# Altium schematic symbol library Aeroval.SchLib: 16 symbols
Pins are listed as number, name and electrical type; pins without a type are passive.

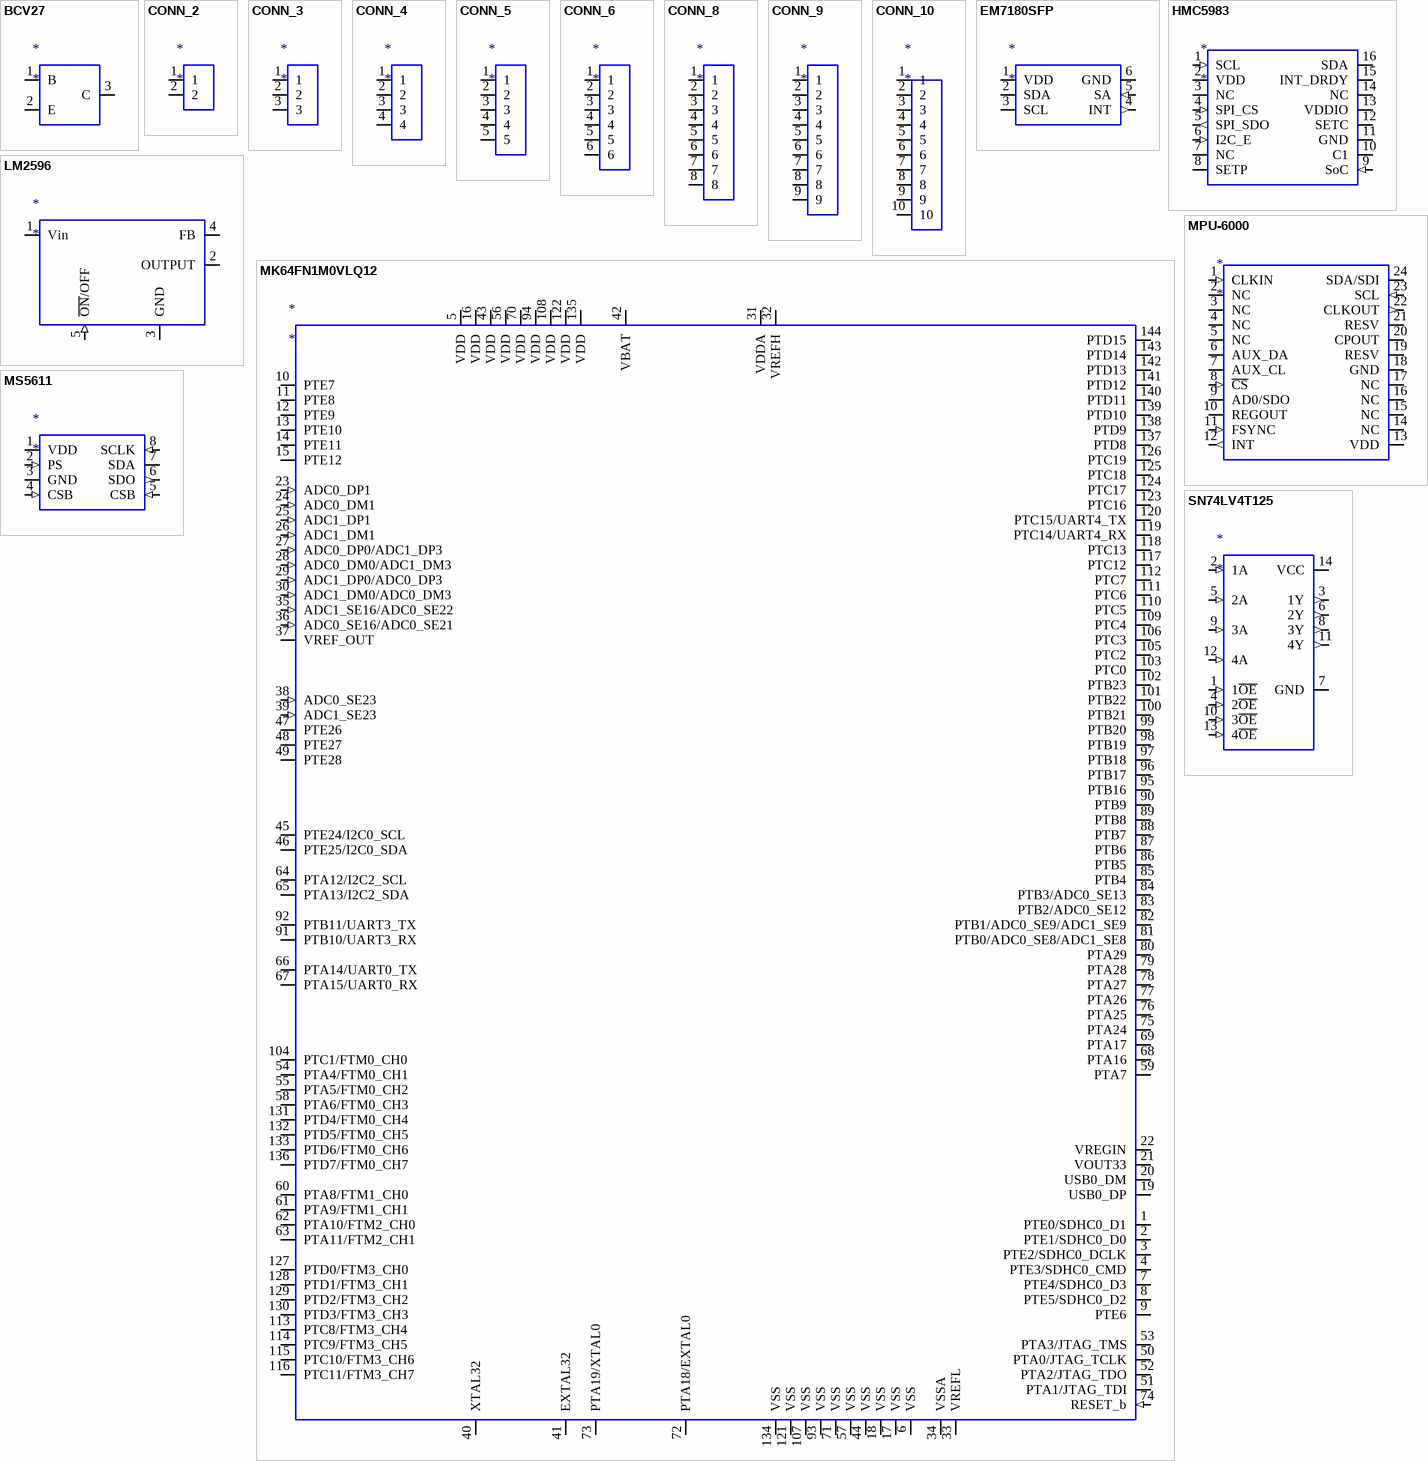
[diagram p0: symbols BCV27 to SN74LV4T125]

## BCV27
designator *
pins: 1 B (power), 2 E (power), 3 C (power)

## CONN_2
designator *
pins: 1 (io), 2 (io)

## CONN_3
designator *
pins: 1 (io), 2 (io), 3 (io)

## CONN_4
designator *
pins: 1 (io), 2 (io), 3 (io), 4 (io)

## CONN_5
designator *
pins: 1 (io), 2 (io), 3 (io), 4 (io), 5 (io)

## CONN_6
designator *
pins: 1 (io), 2 (io), 3 (io), 4 (io), 5 (io), 6 (io)

## CONN_8
designator *
pins: 1 (io), 2 (io), 3 (io), 4 (io), 5 (io), 6 (io), 7 (io), 8 (io)

## CONN_9
designator *
pins: 1 (io), 2 (io), 3 (io), 4 (io), 5 (io), 6 (io), 7 (io), 8 (io), 9 (io)

## CONN_10
designator *
pins: 1 (io), 2 (io), 3 (io), 4 (io), 5 (io), 6 (io), 7 (io), 8 (io), 9 (io), 10 (io)

## EM7180SFP
designator *
pins: 1 VDD (power), 2 SDA (io), 3 SCL (io), 4 INT (out), 5 SA (in), 6 GND (power)

## HMC5983
designator *
pins: 1 SCL (in), 2 VDD (power), 3 NC (power), 4 SPI_CS (in), 5 SPI_SDO (out), 6 I2C_E (in), 7 NC (power), 8 SETP (power), 9 SoC (in), 10 C1 (power), 11 GND (power), 12 SETC (power), 13 VDDIO (power), 14 NC (power), 15 INT_DRDY (power), 16 SDA (io)

## LM2596
designator *
pins: 1 Vin (power), 2 OUTPUT (power), 3 GND (power), 4 FB (power), 5 ~{ON}/OFF (in)

## MK64FN1M0VLQ12
designator *
pins: 1 PTE0/SDHC0_D1 (io), 2 PTE1/SDHC0_D0 (io), 3 PTE2/SDHC0_DCLK (io), 4 PTE3/SDHC0_CMD (io), 5 VDD (power), 6 VSS (power), 7 PTE4/SDHC0_D3 (io), 8 PTE5/SDHC0_D2 (io), 9 PTE6 (io), 10 PTE7 (io), 11 PTE8 (io), 12 PTE9 (io), 13 PTE10 (io), 14 PTE11 (io), 15 PTE12 (io), 16 VDD (power), 17 VSS (power), 18 VSS (power), 19 USB0_DP (io), 20 USB0_DM (io), 21 VOUT33 (power), 22 VREGIN (power), 23 ADC0_DP1 (in), 24 ADC0_DM1 (in), 25 ADC1_DP1 (in), 26 ADC1_DM1 (in), 27 ADC0_DP0/ADC1_DP3 (in), 28 ADC0_DM0/ADC1_DM3 (in), 29 ADC1_DP0/ADC0_DP3 (in), 30 ADC1_DM0/ADC0_DM3 (in), 31 VDDA (power), 32 VREFH (power), 33 VREFL (power), 34 VSSA (power), 35 ADC1_SE16/ADC0_SE22 (in), 36 ADC0_SE16/ADC0_SE21 (in), 37 VREF_OUT (power), 38 ADC0_SE23 (in), 39 ADC1_SE23 (in), 40 XTAL32 (io), 41 EXTAL32 (io), 42 VBAT (power), 43 VDD (power), 44 VSS (power), 45 PTE24/I2C0_SCL (io), 46 PTE25/I2C0_SDA (io), 47 PTE26 (io), 48 PTE27 (io), 49 PTE28 (io), 50 PTA0/JTAG_TCLK (io), 51 PTA1/JTAG_TDI (io), 52 PTA2/JTAG_TDO (io), 53 PTA3/JTAG_TMS (io), 54 PTA4/FTM0_CH1 (io), 55 PTA5/FTM0_CH2 (io), 56 VDD (power), 57 VSS (power), 58 PTA6/FTM0_CH3 (io), 59 PTA7 (io), 60 PTA8/FTM1_CH0 (io), 61 PTA9/FTM1_CH1 (io), 62 PTA10/FTM2_CH0 (io), 63 PTA11/FTM2_CH1 (io), 64 PTA12/I2C2_SCL (io), 65 PTA13/I2C2_SDA (io), 66 PTA14/UART0_TX (io), 67 PTA15/UART0_RX (io), 68 PTA16 (io), 69 PTA17 (io), 70 VDD (power), 71 VSS (power), 72 PTA18/EXTAL0 (io), 73 PTA19/XTAL0 (io), 74 RESET_b (in), 75 PTA24 (io), 76 PTA25 (io), 77 PTA26 (io), 78 PTA27 (io), 79 PTA28 (io), 80 PTA29 (io), 81 PTB0/ADC0_SE8/ADC1_SE8 (io), 82 PTB1/ADC0_SE9/ADC1_SE9 (io), 83 PTB2/ADC0_SE12 (io), 84 PTB3/ADC0_SE13 (io), 85 PTB4 (io), 86 PTB5 (io), 87 PTB6 (io), 88 PTB7 (io), 89 PTB8 (io), 90 PTB9 (io), 91 PTB10/UART3_RX (io), 92 PTB11/UART3_TX (io), 93 VSS (power), 94 VDD (power), 95 PTB16 (io), 96 PTB17 (io), 97 PTB18 (io), 98 PTB19 (io), 99 PTB20 (io), 100 PTB21 (io), 101 PTB22 (io), 102 PTB23 (io), 103 PTC0 (io), 104 PTC1/FTM0_CH0 (io), 105 PTC2 (io), 106 PTC3 (io), 107 VSS (power), 108 VDD (power), 109 PTC4 (io), 110 PTC5 (io), 111 PTC6 (io), 112 PTC7 (io), 113 PTC8/FTM3_CH4 (io), 114 PTC9/FTM3_CH5 (io), 115 PTC10/FTM3_CH6 (io), 116 PTC11/FTM3_CH7 (io), 117 PTC12 (io), 118 PTC13 (io), 119 PTC14/UART4_RX (io), 120 PTC15/UART4_TX (io), 121 VSS (power), 122 VDD (power), 123 PTC16 (io), 124 PTC17 (io), 125 PTC18 (io), 126 PTC19 (io), 127 PTD0/FTM3_CH0 (io), 128 PTD1/FTM3_CH1 (io), 129 PTD2/FTM3_CH2 (io), 130 PTD3/FTM3_CH3 (io), 131 PTD4/FTM0_CH4 (io), 132 PTD5/FTM0_CH5 (io), 133 PTD6/FTM0_CH6 (io), 134 VSS (power), 135 VDD (power), 136 PTD7/FTM0_CH7 (io), 137 PTD8 (io), 138 PTD9 (io), 139 PTD10 (io), 140 PTD11 (io), 141 PTD12 (io), 142 PTD13 (io), 143 PTD14 (io), 144 PTD15 (io)

## MPU-6000
designator *
pins: 1 CLKIN (in), 2 NC (power), 3 NC (power), 4 NC (power), 5 NC (power), 6 AUX_DA (io), 7 AUX_CL (io), 8 ~{CS} (in), 9 AD0/SDO (io), 10 REGOUT (power), 11 FSYNC (in), 12 INT (out), 13 VDD (power), 14 NC (power), 15 NC (power), 16 NC (power), 17 NC (power), 18 GND (power), 19 RESV (power), 20 CPOUT (power), 21 RESV (power), 22 CLKOUT (out), 23 SCL (in), 24 SDA/SDI (io)

## MS5611
designator *
pins: 1 VDD (power), 2 PS (in), 3 GND (power), 4 CSB (in), 5 CSB (in), 6 SDO (out), 7 SDA (io), 8 SCLK (in)

## SN74LV4T125
designator *
pins: 1 1~{OE} (in), 2 1A (in), 3 1Y (out), 4 2~{OE} (in), 5 2A (in), 6 2Y (out), 7 GND (power), 8 3Y (out), 9 3A (in), 10 3~{OE} (in), 11 4Y (out), 12 4A (in), 13 4~{OE} (in), 14 VCC (power)